# EAGLE library part S9016E-06-ND (library S9016E-06-ND)
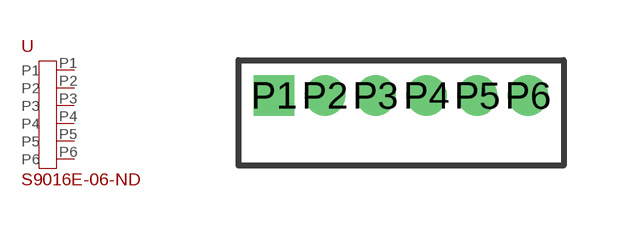
[diagram p0: symbol with the pads of S9016E-05-ND; footprint S9016E-05-ND]

Designator prefix -

## S9016E-06-ND  [S9016E-05-ND]
P1  P1
P2  P2
P3  P3
P4  P4
P5  P5
P6  P6

## Footprint S9016E-05-ND (pad centres in mm)
drill 0.5 pad 0.61 square: P1 0,0
drill 0.5 pad 0.61: P2 1.27,0; P3 2.54,0; P4 3.81,0; P5 5.08,0; P6 6.35,0